# Altium schematic symbol library TSW-104-07-G-S.SchLib: 1 symbol
Pins are listed as number, name and electrical type; pins without a type are passive.

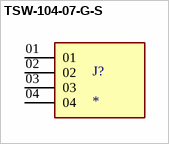
[diagram p0: symbol TSW-104-07-G-S]

## TSW-104-07-G-S
designator J?
MF: {'manufacturer': u'Samtec'}; MP: TSW-104-07-G-S; Package: None; Price: None; Value: *; Availability: Unavailable
footprint SAMTEC_TSW-104-07-G-S
pins: 01, 02, 03, 04